# EAGLE library part CP2108 (library Silicon Labs)
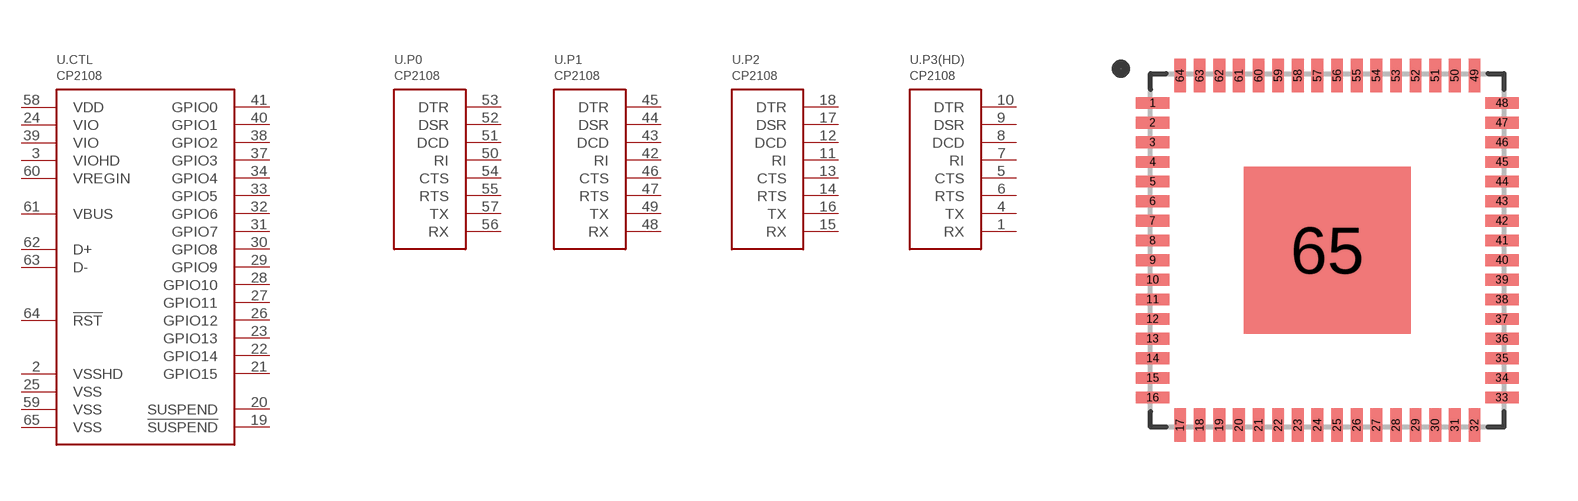
[diagram p3: symbol with the pads of QFN64; footprint QFN64]

Designator prefix U; gates .CTL=CP2108-CTL .P0=CP2108-UART .P1=CP2108-UART .P2=CP2108-UART .P3(HD)=CP2108-UART

## CP2108  [QFN64]
1  .P3(HD):RX
2  .CTL:VSSHD
3  .CTL:VIOHD
4  .P3(HD):TX
5  .P3(HD):CTS
6  .P3(HD):RTS
7  .P3(HD):RI
8  .P3(HD):DCD
9  .P3(HD):DSR
10  .P3(HD):DTR
11  .P2:RI
12  .P2:DCD
13  .P2:CTS
14  .P2:RTS
15  .P2:RX
16  .P2:TX
17  .P2:DSR
18  .P2:DTR
19  .CTL:!SUSPEND
20  .CTL:SUSPEND
21  .CTL:GPIO15
22  .CTL:GPIO14
23  .CTL:GPIO13
24  .CTL:VIO
25  .CTL:VSS
26  .CTL:GPIO12
27  .CTL:GPIO11
28  .CTL:GPIO10
29  .CTL:GPIO9
30  .CTL:GPIO8
31  .CTL:GPIO7
32  .CTL:GPIO6
33  .CTL:GPIO5
34  .CTL:GPIO4
37  .CTL:GPIO3
38  .CTL:GPIO2
39  .CTL:VIO
40  .CTL:GPIO1
41  .CTL:GPIO0
42  .P1:RI
43  .P1:DCD
44  .P1:DSR
45  .P1:DTR
46  .P1:CTS
47  .P1:RTS
48  .P1:RX
49  .P1:TX
50  .P0:RI
51  .P0:DCD
52  .P0:DSR
53  .P0:DTR
54  .P0:CTS
55  .P0:RTS
56  .P0:RX
57  .P0:TX
58  .CTL:VDD
59  .CTL:VSS
60  .CTL:VREGIN
61  .CTL:VBUS
62  .CTL:D+
63  .CTL:D-
64  .CTL:!RST
65  .CTL:VSS

## Footprint QFN64 (pad centres in mm)
smd 0.85 x 0.3: 1 -4.45,3.75; 2 -4.45,3.25; 3 -4.45,2.75; 4 -4.45,2.25; 5 -4.45,1.75; 6 -4.45,1.25; 7 -4.45,0.75; 8 -4.45,0.25; 9 -4.45,-0.25; 10 -4.45,-0.75; 11 -4.45,-1.25; 12 -4.45,-1.75; 13 -4.45,-2.25; 14 -4.45,-2.75; 15 -4.45,-3.25; 16 -4.45,-3.75; 33 4.45,-3.75; 34 4.45,-3.25; 35 4.45,-2.75; 36 4.45,-2.25; 37 4.45,-1.75; 38 4.45,-1.25; 39 4.45,-0.75; 40 4.45,-0.25; 41 4.45,0.25; 42 4.45,0.75; 43 4.45,1.25; 44 4.45,1.75; 45 4.45,2.25; 46 4.45,2.75; 47 4.45,3.25; 48 4.45,3.75
smd 0.3 x 0.85: 17 -3.75,-4.45; 18 -3.25,-4.45; 19 -2.75,-4.45; 20 -2.25,-4.45; 21 -1.75,-4.45; 22 -1.25,-4.45; 23 -0.75,-4.45; 24 -0.25,-4.45; 25 0.25,-4.45; 26 0.75,-4.45; 27 1.25,-4.45; 28 1.75,-4.45; 29 2.25,-4.45; 30 2.75,-4.45; 31 3.25,-4.45; 32 3.75,-4.45; 49 3.75,4.45; 50 3.25,4.45; 51 2.75,4.45; 52 2.25,4.45; 53 1.75,4.45; 54 1.25,4.45; 55 0.75,4.45; 56 0.25,4.45; 57 -0.25,4.45; 58 -0.75,4.45; 59 -1.25,4.45; 60 -1.75,4.45; 61 -2.25,4.45; 62 -2.75,4.45; 63 -3.25,4.45; 64 -3.75,4.45
smd 4.25 x 4.25: 65 0,0